# EAGLE library part AD8302 (library Arsenio)
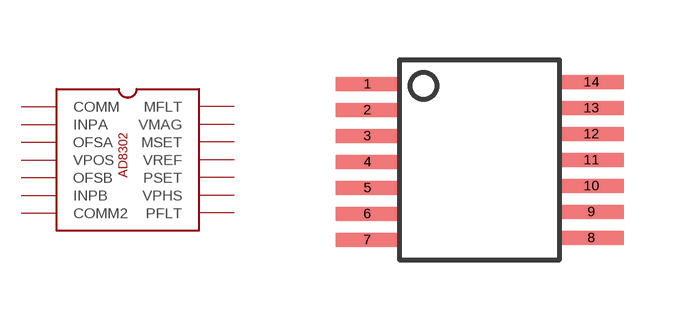
[diagram p6: symbol with the pads of TSSOP-14; footprint TSSOP-14]

Designator prefix -

## AD8302  [TSSOP-14]
1  COMM
2  INPA
3  OFSA
4  VPOS
5  OFSB
6  INPB
7  COMM2
8  PFLT
9  VPHS
10  PSET
11  VREF
12  MSET
13  VMAG
14  MFLT

## Footprint TSSOP-14 (pad centres in mm)
smd 1.6 x 0.35: 1 -2.8,1.9; 2 -2.8,1.25; 3 -2.8,0.6; 4 -2.8,-0.05; 5 -2.8,-0.7; 6 -2.8,-1.35; 7 -2.8,-2; 8 2.8,-1.95; 9 2.8,-1.3; 10 2.8,-0.65; 11 2.8,0; 12 2.8,0.65; 13 2.8,1.3; 14 2.8,1.95